# Altium footprint library 晶振.PcbLib: 38 footprints (part 2 of 3)
Each footprint in its own frame and in the unit in brackets; x right, y up, seen from the top. Pads: shape width x height; smd on the part's side, far side on the other; paste and mask are expansions set on the pad; w line width, h text height; cw(c..) or ccw(c..) is an arc to the next point about the centre after c.
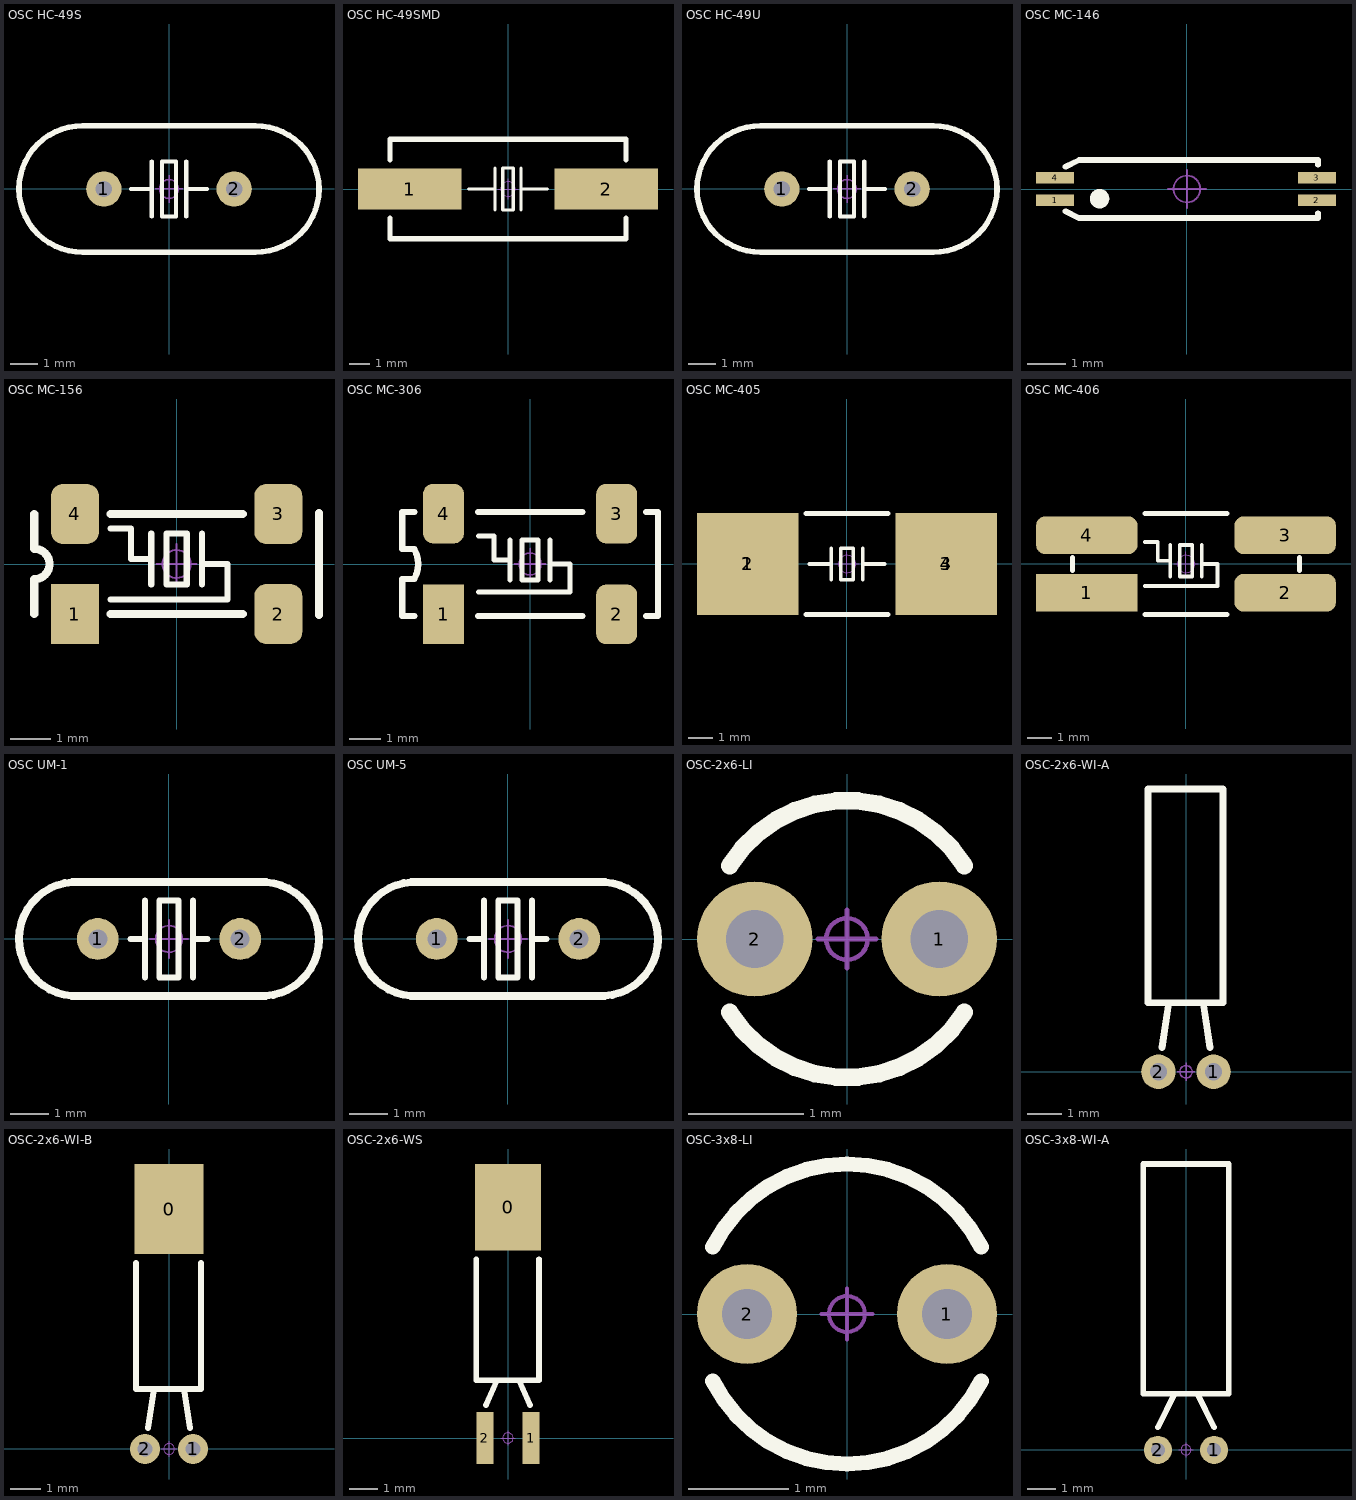
[diagram p1: the footprints below, top view; thin cyan lines are the x and y axes]

## OSC HC-49S [mm]
pads (2):
  round 1.3 hole 0.6: 1(-2.4,0) 2(2.4,0)
Top Overlay:
  lines w0.152: -1.397,0 -0.635,0 ; -0.635,-1.016 -0.635,1.016 ; 0.635,-1.016 0.635,1.016 ; 0.635,0 1.397,0 ; -0.254,-1.016 0.254,-1.016 0.254,1.016 -0.254,1.016 -0.254,-1.016
  lines w0.203: -3.175,2.325 ccw(c-3.2,0) -3.173,-2.325 3.175,-2.325 ccw(c3.2,0) 3.173,2.325 -3.175,2.325
Mechanical 15:
  circle w0.05: c0,0 r0.35
  lines w0.05: -0.5,0 0.5,0 ; 0,-0.5 0,0.5
3D body: height 4.13, standoff -3.45, extent -5.525,-2.325 5.525,2.325

## OSC HC-49SMD [mm]
pads (2):
  rect 5x2 smd: 1(-4.75,0) 2(4.75,0)
Top Overlay:
  lines w0.152: -1.905,0 -0.635,0 ; -0.635,-1.016 -0.635,1.016 ; 0.635,-1.016 0.635,1.016 ; 0.635,0 1.905,0 ; -0.254,-1.016 0.254,-1.016 0.254,1.016 -0.254,1.016 -0.254,-1.016
  lines w0.254: -5.7,-1.397 -5.7,-2.4 5.7,-2.4 5.7,-1.397 ; -5.7,1.397 -5.7,2.4 5.7,2.4 5.7,1.397
Mechanical 15:
  circle w0.05: c0,0 r0.35
  lines w0.05: -0.5,0 0.5,0 ; 0,-0.5 0,0.5
3D body: height 4.63, standoff 0.03, extent -6.5,-2.325 6.5,2.325

## OSC HC-49U [mm]
pads (2):
  round 1.3 hole 0.6: 1(-2.4,0) 2(2.4,0)
Top Overlay:
  lines w0.152: -1.397,0 -0.635,0 ; -0.635,-1.016 -0.635,1.016 ; 0.635,-1.016 0.635,1.016 ; 0.635,0 1.397,0 ; -0.254,-1.016 0.254,-1.016 0.254,1.016 -0.254,1.016 -0.254,-1.016
  lines w0.203: -3.175,2.325 ccw(c-3.2,0) -3.173,-2.325 3.175,-2.325 ccw(c3.2,0) 3.173,2.325 -3.175,2.325
Mechanical 15:
  circle w0.05: c0,0 r0.35
  lines w0.05: -0.5,0 0.5,0 ; 0,-0.5 0,0.5
3D body: height 13.95, standoff -3.45, extent -5.525,-2.325 5.525,2.325

## OSC MC-146 [mm] "6.7mm*1.5mm*1.4mm(长*宽*高)"
pads (4):
  rect 1x0.3 smd: 1(-3.45,-0.3) 2(3.4,-0.3) 3(3.4,0.3) 4(-3.45,0.3)
Top Overlay:
  circle w0.254: c-2.286,-0.254 r0.127
  lines w0.152: -3.175,-0.584 -2.819,-0.762 3.429,-0.762 3.429,-0.635 ; -3.175,0.584 -2.819,0.762 3.429,0.762 3.429,0.635
Mechanical 15:
  circle w0.05: c0,0 r0.35
  lines w0.05: -0.5,0 0.5,0 ; 0,-0.5 0,0.5
3D body: height 1.45, standoff 0.04, extent -3.45,-0.75 3.45,0.75

## OSC MC-156 [mm] "7.1mm*2.5mm*1.5mm(长*宽*高)"
pads (4):
  rect 1.2x1.5 smd: 1(-2.54,-1.25)
  rrect50% 1.2x1.5 smd: 2(2.54,-1.25) 3(2.54,1.25) 4(-2.54,1.25)
Top Overlay:
  lines w0.152: -1.651,-0.889 1.27,-0.889 1.27,0 0.635,0 ; -1.651,0.889 -1.143,0.889 -1.143,0.127 -0.889,0.127 -0.635,0.127 ; -0.635,-0.508 -0.635,0.762 ; 0.635,-0.508 0.635,0.762 ; -0.254,-0.508 0.254,-0.508 0.254,0.762 -0.254,0.762 -0.254,-0.508
  lines w0.203: -3.556,-1.25 -3.556,-0.381 ccw(c-3.556,0) -3.556,0.381 -3.556,1.25 ; -1.651,-1.25 1.651,-1.25 ; -1.651,1.25 1.651,1.25 ; 3.556,-1.27 3.556,1.27
Mechanical 15:
  circle w0.05: c0,0 r0.35
  lines w0.05: -0.5,0 0.5,0 ; 0,-0.5 0,0.5
3D body: height 1.5, standoff 0.03, extent -3.55,-1.65 3.55,1.65

## OSC MC-306 [mm] "8mm*3.2mm*2.54mm(长*宽*高)"
pads (4):
  rect 1.3x1.9 smd: 1(-2.75,-1.6)
  rrect50% 1.3x1.9 smd: 2(2.75,-1.6) 3(2.75,1.6) 4(-2.75,1.6)
Top Overlay:
  lines w0.152: -1.651,-0.889 1.27,-0.889 1.27,0 0.635,0 ; -1.651,0.889 -1.143,0.889 -1.143,0.127 -0.889,0.127 -0.635,0.127 ; -0.635,-0.508 -0.635,0.762 ; 0.635,-0.508 0.635,0.762 ; -0.254,-0.508 -0.254,0.762 0.254,0.762 0.254,-0.508 -0.254,-0.508
  lines w0.203: -3.683,-1.651 -4.064,-1.651 -4.064,-0.476 -3.683,-0.476 ccw(c-4.512,0) -3.683,0.476 -4.064,0.476 -4.064,1.651 -3.683,1.651 ; -1.651,-1.651 1.651,-1.651 ; -1.651,1.651 1.651,1.651 ; 3.683,-1.651 4.064,-1.651 4.064,1.651 3.683,1.651
Mechanical 15:
  circle w0.05: c0,0 r0.35
  lines w0.05: -0.5,0 0.5,0 ; 0,-0.5 0,0.5
3D body: height 2.56, standoff 0, extent -4,-1.63 4,1.63

## OSC MC-405 [mm] "9.6mm*4.06mm*3.6mm(长*宽*高)"
pads (4):
  rect 4.1x4.1 smd: 1(-4,0) 2(-4,0) 3(4,0) 4(4,0)
Top Overlay:
  lines w0.152: -1.524,0 -0.889,0 -0.635,0 ; -0.635,-0.635 -0.635,0.635 ; 0.635,-0.635 0.635,0.635 ; 0.635,0 1.524,0 ; -0.254,-0.635 -0.254,0.635 0.254,0.635 0.254,-0.635 -0.254,-0.635
  lines w0.203: -1.651,-2.032 1.651,-2.032 ; -1.651,2.032 1.651,2.032
Mechanical 15:
  circle w0.05: c0,0 r0.35
  lines w0.05: -0.5,0 0.5,0 ; 0,-0.5 0,0.5
3D body: height 3.4, standoff -0.05, extent -5.15,-2.03 5.15,2.03

## OSC MC-406 [mm] "9.6mm*4.06mm*3.6mm(长*宽*高)"
pads (4):
  rect 4.1x1.52 smd: 1(-4,-1.16)
  rrect50% 4.1x1.52 smd: 2(4,-1.16) 3(4,1.16) 4(-4,1.16)
Top Overlay:
  lines w0.152: -1.651,-0.889 1.27,-0.889 1.27,0 0.635,0 ; -1.651,0.889 -1.143,0.889 -1.143,0.127 -0.889,0.127 -0.635,0.127 ; -0.635,-0.508 -0.635,0.762 ; 0.635,-0.508 0.635,0.762 ; -0.254,-0.508 -0.254,0.762 0.254,0.762 0.254,-0.508 -0.254,-0.508
  lines w0.203: -4.572,-0.254 -4.572,0.254 ; -1.651,-2.032 1.651,-2.032 ; -1.651,2.032 1.651,2.032 ; 4.572,-0.254 4.572,0.254
Mechanical 15:
  circle w0.05: c0,0 r0.35
  lines w0.05: -0.5,0 0.5,0 ; 0,-0.5 0,0.5
3D body: height 3.4, standoff -0.05, extent -5.15,-2.03 5.15,2.03

## OSC UM-1 [mm]
pads (2):
  round 1.1 hole 0.5: 1(-1.875,0) 2(1.875,0)
Top Overlay:
  lines w0.152: -1.016,0 -0.635,0 ; -0.635,-1.016 -0.635,1.016 ; 0.635,-1.016 0.635,1.016 ; 0.635,0 1.016,0 ; -0.254,-1.016 -0.254,1.016 0.254,1.016 0.254,-1.016 -0.254,-1.016
  lines w0.203: -2.556,-1.5 2.54,-1.5 ccw(c2.452,-0.003) 2.558,1.493 ; -2.556,-1.496 cw(c-2.45,0) -2.538,1.497 ; -2.538,1.5 2.558,1.5
Mechanical 15:
  circle w0.05: c0,0 r0.35
  lines w0.05: -0.5,0 0.5,0 ; 0,-0.5 0,0.5
3D body: height 8.05, standoff -3.45, extent -3.95,-1.5 3.95,1.5

## OSC UM-5 [mm]
pads (2):
  round 1.1 hole 0.5: 1(-1.875,0) 2(1.875,0)
Top Overlay:
  lines w0.152: -1.016,0 -0.635,0 ; -0.635,-1.016 -0.635,1.016 ; 0.635,-1.016 0.635,1.016 ; 0.635,0 1.016,0 ; -0.254,-1.016 0.254,-1.016 0.254,1.016 -0.254,1.016 -0.254,-1.016
  lines w0.203: -2.556,-1.5 2.54,-1.5 ccw(c2.452,-0.003) 2.558,1.493 ; -2.556,-1.496 cw(c-2.45,0) -2.538,1.497 ; -2.538,1.5 2.558,1.5
Mechanical 15:
  circle w0.05: c0,0 r0.35
  lines w0.05: -0.5,0 0.5,0 ; 0,-0.5 0,0.5
3D body: height 6.05, standoff -3.45, extent -3.95,-1.5 3.95,1.5

## OSC-2x6-LI [mm] "脚距：1.6mm"
pads (2):
  round 1 hole 0.5: 1(0.8,0) 2(-0.8,0)
Top Overlay:
  lines w0.152: -1.018,-0.636 ccw(c0,0) 1.018,-0.636 ; -1.018,0.636 cw(c0,0) 1.018,0.636
Mechanical 15:
  circle w0.04: c0,0 r0.18
  lines w0.04: -0.254,0 0.254,0 ; 0,-0.254 0,0.254
3D body: height 7.1, standoff -2.45, extent -1,-1 1,1

## OSC-2x6-WI-A [mm] "脚距：1.6mm"
pads (2):
  round 1 hole 0.5: 1(0.8,0) 2(-0.8,0)
Top Overlay:
  lines w0.2: -0.7,0.7 -0.5,2 ; 0.5,2 0.7,0.7 ; -1.1,2 1.072,2 1.072,8.2 -1.1,8.2 -1.1,2
Mechanical 15:
  circle w0.04: c0,0 r0.18
  lines w0.04: -0.254,0 0.254,0 ; 0,-0.254 0,0.254
3D body: height 2.05, standoff -2.6, extent -1,-0.157 1,8

## OSC-2x6-WI-B [mm] "脚距：1.6mm"
pads (3):
  rect 2.3x3 smd: 0(0,8)
  round 1 hole 0.5: 1(0.8,0) 2(-0.8,0)
Top Overlay:
  lines w0.2: -1.1,6.2 -1.1,2 1.072,2 1.072,6.2 ; -0.7,0.7 -0.5,2 ; 0.5,2 0.7,0.7
Mechanical 15:
  circle w0.04: c0,0 r0.18
  lines w0.04: -0.254,0 0.254,0 ; 0,-0.254 0,0.254
3D body: height 2.05, standoff -2.6, extent -1,-0.157 1,8

## OSC-2x6-WS [mm] "脚距：1.6mm"
pads (3):
  rect 2.3x3 smd: 0(0,8)
  rect 0.6x1.8 smd: 1(0.8,0) 2(-0.8,0)
Top Overlay:
  lines w0.2: -1.1,6.2 -1.1,2 1.072,2 1.072,6.2 ; -0.762,1.143 -0.381,2 ; 0.381,2 0.762,1.143
Mechanical 15:
  circle w0.04: c0,0 r0.18
  lines w0.04: -0.254,0 0.254,0 ; 0,-0.254 0,0.254
3D body: height 2.01, standoff -0.04, extent -1,-0.601 1,8

## OSC-3x8-LI [mm] "脚距：2mm"
pads (2):
  round 1 hole 0.5: 1(1,0) 2(-1,0)
Top Overlay:
  lines w0.152: -1.342,-0.671 ccw(c0,0) 1.342,-0.671 ; -1.342,0.671 cw(c0,0) 1.342,0.671
Mechanical 15:
  circle w0.04: c0,0 r0.18
  lines w0.04: -0.254,0 0.254,0 ; 0,-0.254 0,0.254
3D body: height 9.1, standoff -2.5, extent -1.5,-1.5 1.5,1.5

## OSC-3x8-WI-A [mm] "脚距：2mm"
pads (2):
  round 1 hole 0.5: 1(1,0) 2(-1,0)
Top Overlay:
  lines w0.2: -1,0.8 -0.4,2 ; 0.4,2 1,0.8 ; -1.524,2 -1.524,10.16 1.524,10.16 1.524,2 -1.524,2
Mechanical 15:
  circle w0.04: c0,0 r0.18
  lines w0.04: -0.254,0 0.254,0 ; 0,-0.254 0,0.254
3D body: height 3.03, standoff -2.6, extent -1.5,-0.179 1.5,10